# Altium schematic symbol library TimeCard_NIC.SCHLIB: 121 symbols (part 2 of 2)
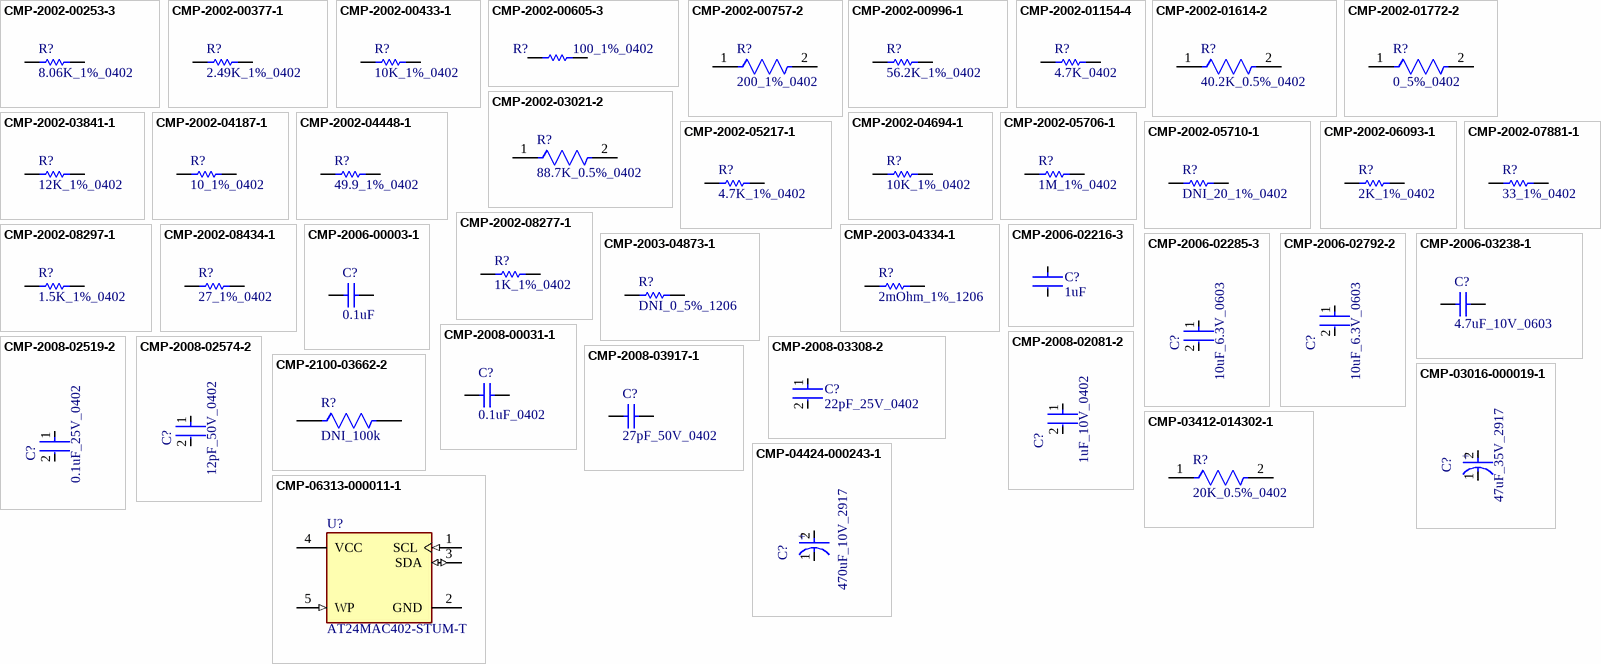
[diagram p5: symbols CMP-2002-00253-3 to CMP-06313-000011-1]

## CMP-2002-06093-1
designator R?, comment 2K_1%_0402
Manufacturer: Multicomp; Part Number: MC00625W040212K; Manufacturer Part Number: MC00625W040212K
footprint RESC1005X40X25LL10T10 (Chip Resistor, 2-Leads, Body 1.00x0.50mm, IPC High Density)
footprint RESC1005X40X25NL10T10 (Chip Resistor, 2-Leads, Body 1.00x0.50mm, IPC Medium Density)
footprint RESC1005X40X25ML10T10 (Chip Resistor, 2-Leads, Body 1.00x0.50mm, IPC Low Density)
pins: 1, 2
1 alternate drawing of the same symbol

## CMP-2002-07881-1
designator R?, comment 33_1%_0402
Part Number: RC0402FR-1333RL; Manufacturer: Yageo; Manufacturer Part Number: RC0402FR-1333RL
footprint RESC1005X40X25NL05T10 (Chip Resistor, 2-Leads, Body 1.00x0.50mm, IPC Medium Density)
footprint RESC1005X40X25LL05T10 (Chip Resistor, 2-Leads, Body 1.00x0.50mm, IPC High Density)
footprint RESC1005X40X25ML05T10 (Chip Resistor, 2-Leads, Body 1.00x0.50mm, IPC Low Density)
pins: 1, 2
1 alternate drawing of the same symbol

## CMP-2002-08277-1
designator R?, comment 1K_1%_0402
Manufacturer: Vishay Dale; Part Number: CRCW04021K00FKTD; Manufacturer Part Number: CRCW04021K00FKTD
footprint RESC1005X40X25NL05T05 (Chip Resistor, 2-Leads, Body 1.00x0.50mm, IPC Medium Density)
footprint RESC1005X40X25LL05T05 (Chip Resistor, 2-Leads, Body 1.00x0.50mm, IPC High Density)
footprint RESC1005X40X25ML05T05 (Chip Resistor, 2-Leads, Body 1.00x0.50mm, IPC Low Density)
pins: 1, 2
1 alternate drawing of the same symbol

## CMP-2002-08297-1
designator R?, comment 1.5K_1%_0402
Part Number: CRCW04021K50FKED; Manufacturer: Vishay Dale; Manufacturer: Vishay; Manufacturer Part Number: CRCW04021K50FKED
footprint RESC1005X40X25NL05T05 (Chip Resistor, 2-Leads, Body 1.00x0.50mm, IPC Medium Density)
footprint RESC1005X40X25ML05T05 (Chip Resistor, 2-Leads, Body 1.00x0.50mm, IPC Low Density)
footprint RESC1005X40X25LL05T05 (Chip Resistor, 2-Leads, Body 1.00x0.50mm, IPC High Density)
pins: 1, 2
1 alternate drawing of the same symbol

## CMP-2002-08434-1
designator R?, comment 27_1%_0402
Part Number: CRCW040227R0FKED; Manufacturer: Vishay Dale; Manufacturer: Vishay; Manufacturer Part Number: CRCW040227R0FKED
footprint RESC1005X40X25NL05T05 (Chip Resistor, 2-Leads, Body 1.00x0.50mm, IPC Medium Density)
footprint RESC1005X40X25LL05T05 (Chip Resistor, 2-Leads, Body 1.00x0.50mm, IPC High Density)
footprint RESC1005X40X25ML05T05 (Chip Resistor, 2-Leads, Body 1.00x0.50mm, IPC Low Density)
pins: 1, 2
1 alternate drawing of the same symbol

## CMP-2003-04334-1
designator R?, comment 2mOhm_1%_1206
Manufacturer: Vishay Dale; Part Number: WSL12062L000FEA18; Manufacturer Part Number: WSL12062L000FEA18
footprint RESC3216X89X64NL25T25 (Chip Resistor, 2-Leads, Body 3.20x1.60mm, IPC Medium Density)
footprint RESC3216X89X64LL25T25 (Chip Resistor, 2-Leads, Body 3.20x1.60mm, IPC High Density)
footprint RESC3216X89X64ML25T25 (Chip Resistor, 2-Leads, Body 3.20x1.60mm, IPC Low Density)
pins: 1, 2
1 alternate drawing of the same symbol

## CMP-2003-04873-1
designator R?, comment DNI_0_5%_1206  (no BOM)
Part Number: CRCW12060000Z0EAHP; Manufacturer: Vishay Dale; Manufacturer Part Number: CRCW12060000Z0EAHP
footprint RESC3116X65X50ML20T20 (Chip Resistor, 2-Leads, Body 3.10x1.60mm, IPC Low Density)
footprint RESC3116X65X50LL20T20 (Chip Resistor, 2-Leads, Body 3.10x1.60mm, IPC High Density)
footprint RESC3116X65X50NL20T20 (Chip Resistor, 2-Leads, Body 3.10x1.60mm, IPC Medium Density)
pins: 1, 2
1 alternate drawing of the same symbol

## CMP-2006-00003-1
designator C?, comment 0.1uF
C0603X104K5RACAUTO; Manufacturer: Kemet; Part Number: C0603X104K5RACAUTO; Manufacturer: KEMET; Manufacturer Part Number: C0603X104K5RACAUTO
footprint CAPC1608X87X45ML20T05 (Chip Capacitor, 2-Leads, Body 1.60x0.80mm, IPC Low Density)
footprint CAPC1608X87X45LL20T05 (Chip Capacitor, 2-Leads, Body 1.60x0.80mm, IPC High Density)
footprint CAPC1608X87X45NL20T05 (Chip Capacitor, 2-Leads, Body 1.60x0.80mm, IPC Medium Density)
pins: 1, 2
1 alternate drawing of the same symbol

## CMP-2006-02216-3
designator C?, comment 1uF
CAP CER 1UF 25V X5R 0603; Manufacturer: KEMET; Manufacturer Part Number: C0603C105K3PACTU; Dielectric Material: Ceramic; Tolerance: 10%; Contact Plating: Tin; Number of Pins: 2; Lead Free: Lead Free; Depth: 0.8mm; Length: 1.6mm; Mount: Surface Mount; Case Code (Metric): 1608; Max Operating Temperature: 85°C; Voltage: 25V; Voltage Rating (DC): 25V; REACH SVHC: No SVHC; Height: 0.8mm; Series: C0603C; Case/Package: 0603; Case Code (Imperial): 0603; Capacitance: 1uF; RoHS Compliant: Yes; Dielectric: X5R; Packaging: Tape and Reel; Construction: Flat; Thickness: 0.034inch; Voltage Rating: 25V; Radiation Hardening: No; Width: 0.031inch; Min Operating Temperature: -55°C; Termination: SMD/SMT; Package Quantity: 4000
footprint FP-C0603C105K3PACTU-MFG
footprint FP-C0603C105K3PACTU-IPC_C
footprint FP-C0603C105K3PACTU-IPC_B
footprint FP-C0603C105K3PACTU-IPC_A
pins: 1, 2

## CMP-2006-02285-3
designator C?, comment 10uF_6.3V_0603
CAP CER 10UF 6.3V X5R 0603; Manufacturer Part Number: C0603C106M9PACTU; Manufacturer: Kemet; Material: Ceramic; Temperature Coefficient: 15%; Tolerance: 20%; Category: Cap; Height: 0.9mm; Digikey Description: CAP CER 10UF 6.3V X5R 0603; Mouser Description: In a Pack of 10, KEMET 0603 (1608M) 10µF MLCC 6.3V dc ±20% SMD C0603C106M9PACTU; Voltage Rating: 6.3V; Device Class L2: Capacitors; Temperature Range Low: -55°C; Temperature Characteristic: X5R; ComponentLink2Description: Datasheet; Ipc Land Pattern Name: CAPC16080X80; ComponentLink2URL: http://www.kemet.com/Lists/ProductCatalog/Attachments/19/KEM_C1006_X5R_SMD.pdf; Capacitance: 10uF; Temperature Range High: +85°C; Device Class L3: Ceramic Capacitors; RoHS: TRUE; Automotive: No; Value: 10uF; Temperature: -55°C to +85°C; Device Class L1: Passive Components; Package: C0603C106M9PACTU; Lead Free: Yes; Octopart: https://octopart.com/c0603c106m9pactu-kemet-8375727; Manufacturer: KEMET
footprint FP-C0603C106M9PACTU-MFG
footprint FP-C0603C106M9PACTU-IPC_C
footprint FP-C0603C106M9PACTU-IPC_B
footprint FP-C0603C106M9PACTU-IPC_A
pins: 1, 2

## CMP-2006-02792-2
designator C?, comment 10uF_6.3V_0603
Chip Multilayer Ceramic Capacitors for General Purpose, 0603, 10uF, X5R, 15%, 20%, 6.3V; Manufacturer: Murata; Manufacturer Part Number: GRM188R60J106ME47D; Packaging: Tape and Reel; Voltage Rating (DC): 6.3V; Width: 0.031inch; Termination: SMD/SMT; Dielectric: X5R; Package Quantity: 4000; Voltage Rating: 6.3V; Capacitance: 10uF; Case/Package: 0603; Min Operating Temperature: -55°C; Voltage: 6.3V; Length: 1.6mm; Thickness: 0.035inch; Lead Free: Lead Free; Depth: 0.8mm; Case Code (Imperial): 0603; Max Operating Temperature: 85°C; Material: Ceramic; Height: 0.8mm; Tolerance: 20%; Mount: Surface Mount; REACH SVHC: No SVHC; Radiation Hardening: No; Case Code (Metric): 1608
footprint FP-GRM188-0_1-e0_2_0_55-IPC_A
footprint FP-GRM188-0_1-e0_2_0_55-IPC_C
footprint FP-GRM188-0_1-e0_2_0_55-MFG
footprint FP-GRM188-0_1-e0_2_0_55-IPC_B
pins: 1, 2

## CMP-2006-03238-1
designator C?, comment 4.7uF_10V_0603
Part Number: C0603C475K8PACTU; Manufacturer: Kemet; Manufacturer: KEMET; Manufacturer Part Number: C0603C475K8PACTU
footprint CAPC1608X87X35NL15T15 (Chip Capacitor, 2-Leads, Body 1.60x0.80mm, IPC Medium Density)
footprint CAPC1608X87X35LL15T15 (Chip Capacitor, 2-Leads, Body 1.60x0.80mm, IPC High Density)
footprint CAPC1608X87X35ML15T15 (Chip Capacitor, 2-Leads, Body 1.60x0.80mm, IPC Low Density)
pins: 1, 2
1 alternate drawing of the same symbol

## CMP-2008-00031-1
designator C?, comment 0.1uF_0402
Part Number: LD02YD104KAB2A; Manufacturer: AVX Interconnect / Elco; Manufacturer: Kyocera AVX; Manufacturer Part Number: LD02YD104KAB2A
footprint CAPC1005X56X25NL10T15 (Chip Capacitor, 2-Leads, Body 1.00x0.50mm, IPC Medium Density)
footprint CAPC1005X56X25LL10T15 (Chip Capacitor, 2-Leads, Body 1.00x0.50mm, IPC High Density)
footprint CAPC1005X56X25ML10T15 (Chip Capacitor, 2-Leads, Body 1.00x0.50mm, IPC Low Density)
pins: 1, 2
1 alternate drawing of the same symbol

## CMP-2008-02081-2
designator C?, comment 1uF_10V_0402
CAP CER 1UF 10V X5R 0402; Manufacturer: KEMET; Manufacturer Part Number: C0402C105K8PACTU; Dielectric Material: Ceramic; Dissipation Factor: 5%; Tolerance: 10%; Number of Pins: 2; Contact Plating: Tin; Min Operating Temperature: -55°C; Termination: SMD/SMT; Lead Free: Lead Free; Construction: Flat; Voltage Rating (DC): 10V; Mount: Surface Mount; Series: C; Thickness: 0.022inch; Width: 0.5mm; Radiation Hardening: No; Capacitance: 1uF; Dielectric: X5R; Height: 0.5mm; Voltage: 10V; Length: 1mm; Depth: 0.5mm; Max Operating Temperature: 85°C; Package Quantity: 1; Packaging: Tape and Reel; RoHS Compliant: Yes; Case Code (Imperial): 0402; Case Code (Metric): 1005; REACH SVHC: No SVHC; Voltage Rating: 10V; Case/Package: 0402
footprint FP-C0402C105K8PACTU-MFG
footprint FP-C0402C105K8PACTU-IPC_C
footprint FP-C0402C105K8PACTU-IPC_B
footprint FP-C0402C105K8PACTU-IPC_A
pins: 1, 2

## CMP-2008-02519-2
designator C?, comment 0.1uF_25V_0402
General Purpose Ceramic Capacitor, 0402, 100nF, 10%, X7R, 15%, 25V; Manufacturer: Kyocera AVX; Manufacturer Part Number: 04023C104KAT2A; Package Quantity: 1; Capacitance: 100nF; Min Operating Temperature: -55°C; Voltage: 25V; Voltage Rating: 25V; Construction: Flat; Max Operating Temperature: 125°C; Radiation Hardening: No; Depth: 0.5mm; Thickness: 0.022inch; Voltage Rating (DC): 25V; Number of Pins: 2; Lead Free: Lead Free; Series: -; REACH SVHC: No SVHC; Length: 1mm; Dielectric: X7R; RoHS Compliant: Yes; Mount: Surface Mount; Packaging: Tape and Reel; Case/Package: 0402; Case Code (Imperial): 0402; Termination: SMD/SMT; Width: 0.02inch; Case Code (Metric): 1005; Tolerance: 10%
footprint FP-0402-L_1_0_1-W_0_5_0_1-IPC_C
footprint FP-0402-L_1_0_1-W_0_5_0_1-IPC_B
footprint FP-0402-L_1_0_1-W_0_5_0_1-MFG
footprint FP-0402-L_1_0_1-W_0_5_0_1-IPC_A
pins: 1, 2

## CMP-2008-02574-2
designator C?, comment 12pF_50V_0402
General Purpose Ceramic Capacitor, 0402, 12pF, 5%, C0G, 30ppm/°C, 50V; Manufacturer: Kyocera AVX; Manufacturer Part Number: 04025A120JAT2A; Insulation Resistance: 100GR; Radiation Hardening: No; RoHS Compliant: Yes; Voltage Rating: 50V; Case Code (Imperial): 0402; Height: 0.5mm; Voltage: 50V; Voltage Rating (DC): 50V; Mount: Surface Mount; Capacitance: 12pF; Thickness: 0.022inch; Depth: 0.5mm; Max Operating Temperature: 125°C; Construction: Flat; Termination: SMD/SMT; Tolerance: 5%; Length: 1mm; Lead Free: Lead Free; Dielectric: C0G; Number of Pins: 2; Package Quantity: 1; Series: -; Temperature Coefficient: 30ppm/°C; Min Operating Temperature: -55°C; Case/Package: 0402; Packaging: Tape and Reel; Case Code (Metric): 1005; Width: 0.02inch; REACH SVHC: No SVHC
footprint FP-0402-L_1_0_1-W_0_5_0_1-IPC_B
footprint FP-0402-L_1_0_1-W_0_5_0_1-IPC_A
footprint FP-0402-L_1_0_1-W_0_5_0_1-IPC_C
footprint FP-0402-L_1_0_1-W_0_5_0_1-MFG
pins: 1, 2

## CMP-2008-03308-2
designator C?, comment 22pF_25V_0402
CAP CER 22PF 25V 5% NP0 0402; Manufacturer: Kemet; Manufacturer Part Number: C0402C220J3GACTU; Tolerance: 0.05; Temperature Characteristic: C0G; Material: Ceramic; Temperature Coefficient: 15%; Temperature Range High: +125°C; Automotive: No; Value: 22 pF; Category: Cap; Package: C0402-BB; Voltage Rating: 25 V; ComponentLink2URL: https://content.kemet.com/datasheets/KEM_C1002_X7R_SMD.pdf; Digikey Description: CAP CER 22PF 25V 5% NP0 0402; Device Class L2: Capacitors; Height: 0.55mm; Octopart: https://octopart.com/c0402c220j3gactu-kemet-8375716; Ipc Land Pattern Name: CAPC10050X50; Capacitance: 22 pF; Temperature: -55°C to +125°C; ComponentLink2Description: Datasheet; Temperature Range Low: -55°C; Device Class L1: Passive Components; RoHS: TRUE; Lead Free: Yes; Mouser Description: Multilayer Ceramic Capacitors MLCC - SMD/SMT 25volts 22pF C0G 5%; Device Class L3: Ceramic Capacitors; Manufacturer: KEMET
footprint FP-C0402-BB-MFG
footprint FP-C0402-BB-IPC_C
footprint FP-C0402-BB-IPC_B
footprint FP-C0402-BB-IPC_A
pins: 1, 2

## CMP-2008-03917-1
designator C?, comment 27pF_50V_0402
Part Number: GRM1555C1H270JA01D; Manufacturer: Murata; Manufacturer Part Number: GRM1555C1H270JA01D
footprint CAPC1005X55X25LL05T10 (Chip Capacitor, 2-Leads, Body 1.00x0.50mm, IPC High Density)
footprint CAPC1005X55X25ML05T10 (Chip Capacitor, 2-Leads, Body 1.00x0.50mm, IPC Low Density)
footprint CAPC1005X55X25NL05T10 (Chip Capacitor, 2-Leads, Body 1.00x0.50mm, IPC Medium Density)
pins: 1, 2
1 alternate drawing of the same symbol

## CMP-2100-03662-2
designator R?, comment DNI_100k  (no BOM)
RES SMD 100K OHM 1% 1/10W 0603; Manufacturer: Yageo; Manufacturer Part Number: RC0603FR-07100KL; Voltage Rating (DC): 50V; Resistance: 100kR; Max Power Dissipation: 100mW; Temperature Coefficient: 100ppm/°C; Working Voltage: 75V; Length: 1.6mm; Lead Free: Lead Free; Number of Terminations: 2; Packaging: Tape and Reel; Voltage Rating: 50V; Termination: SMD/SMT; Width: 0.8mm; Resistor Type: Thick Film; Resistance Tolerance: 1%; Features: Moisture Resistant; Height: 0.45mm; Construction: Rectangular; Case/Package: 0603; Military Standard: Not; Case Code (Imperial): 0603; Series: RC; Technology: THICK FILM; Depth: 0.8mm; RoHS Compliant: Yes; REACH SVHC: No SVHC; Min Operating Temperature: -55°C; Case Code (Metric): 1608; Max Operating Temperature: 155°C; Power Rating: 100mW; Number of Pins: 2; Tolerance: 1%
footprint FP-RC0603-0_55-MFG
footprint FP-RC0603-0_55-IPC_C
footprint FP-RC0603-0_55-IPC_B
footprint FP-RC0603-0_55-IPC_A
pins: 1, 2

## CMP-03016-000019-1
designator C?, comment 47uF_35V_2917
CAP TANT POLY 47UF 35V 2917; Manufacturer: KEMET; Manufacturer Part Number: T521X476M035ATE030; Tolerance: 20%; Dissipation Factor: 10%; Life (Hours): 2000Hour; Polarity: Polar; ESR (Equivalent Series Resistance): 30mR; Mount: Surface Mount; Voltage Rating (DC): 35V; Height - Seated (Max): 0.169inch; Package Quantity: 1; Height: 4mm; Max Operating Temperature: 125°C; Width: 4.3mm; Packaging: Tape and Reel; Case/Package: 2917; Series: KO-CAP T521; Min Operating Temperature: -55°C; Depth: 4.3mm; Case Code (Metric): 7343; Number of Pins: 2; RoHS Compliant: Yes; Case Code (Imperial): 2917; Capacitance: 47uF; REACH SVHC: No SVHC; Features: General Purpose; Termination: SMD/SMT; Length: 7.3mm; Voltage Rating: 35V; Construction: Flat
footprint FP-T521X476M035ATE030-MFG
pins: 1 C, 2 A
text: +

## CMP-03412-014302-1
designator R?, comment 20K_0.5%_0402
RES SMD 20K OHM 0.5% 1/16W 0402; Manufacturer: Yageo; Manufacturer Part Number: RT0402DRE0720KL; Resistance: 20KΩ; Voltage Rating: 50V; Value: 20KΩ; Tolerance: 0.005; Temperature Coefficient: 50 ppm/°C; Power Rating: 0.063W; RoHS: TRUE; Ipc Land Pattern Name: RESC10050X30; Category: Res; Footprint Url: http://www.yageo.com/exep/pages/download/literatures/PYu-R_Mount_10.pdf; Temperature: -55°C to +155°C; Device Class L1: Passive Components; Device Class L3: Chip SMD Resistors; Temperature Range High: +155°C; Digikey Description: RES SMD 20K OHM 0.5% 1/16W 0402; Device Class L2: Resistors; Octopart: https://octopart.com/rt0402dre0720kl-yageo-1422019; ComponentLink2Description: Datasheet; Composition: Thin Film; Automotive: No; Series: RT; Temperature Range Low: -55°C; Package: RT0402; ComponentLink2URL: http://www.yageo.com/documents/recent/PYu-RT_1-to-0.01_RoHS_L_9.pdf; Lead Free: Yes; Height: 0.35mm
footprint FP-RT0402-MFG
footprint FP-RT0402-IPC_C
footprint FP-RT0402-IPC_B
footprint FP-RT0402-IPC_A
pins: 1, 2

## CMP-04424-000243-1
designator C?, comment 470uF_10V_2917
470uF 10V  ±10% 500mΩ 2917  SMD Tantalum Capacitor; Manufacturer: Kyocera AVX; Manufacturer Part Number: TAJE477K010RNJ; Leakage Current: 47uA; ESR (Equivalent Series Resistance): 500mR; Polarity: Polar; Construction: Flat; Width: 4.3mm; Mount: Surface Mount; Tolerance: 10%; Max Operating Temperature: 125°C; Min Operating Temperature: -55°C; Length: 7.3mm; Voltage: 10V; Dissipation Factor: 10%; REACH SVHC: No SVHC; Lead Free: Lead Free; Case/Package: 2917; Voltage Rating: 10V; Capacitance: 470uF; Series: TAJ; Height: 4.1mm; RoHS Compliant: Yes; Packaging: Tape and Reel; Voltage Rating (DC): 10V; Radiation Hardening: No; Dielectric Material: Tantalum; Number of Pins: 2; Depth: 4.3mm; Case Code (Metric): 7343; Case Code (Imperial): 2917; Termination: SMD/SMT; Lead Pitch: 4.4mm; Features: General Purpose; Height - Seated (Max): 0.169inch; Package Quantity: 1
footprint FP-TAJE-MFG
pins: 1 C, 2 A
text: +

## CMP-06313-000011-1
designator U?, comment AT24MAC402-STUM-T
IC EEPROM 2K I2C 1MHZ SOT23-5; Manufacturer: Microchip; Memory Size: 2Kbits; Min Supply Voltage: 1.7V; Max Supply Voltage: 5.5V; Frequency: 1000kHz; Standoff Height: 0mm; Nominal Supply Current: 0.4-2mA; Access Time: 0.55us; Interface: I2C,2-Wire; Temperature Range Low: -40°C; Height: 1mm; ComponentLink2URL: http://ww1.microchip.com/downloads/en/DeviceDoc/Atmel-8807-SEEPROM-AT24MAC402-602-Datasheet.pdf; Ipc Land Pattern Name: SOT95P280X100-5; Category: IC; Memory Type: EEPROM; Digikey Description: IC EEPROM 2K I2C 1MHZ SOT23-5; Manufacturer Part Number: AT24MAC402-STUM-T; Device Class L1: Integrated Circuits (ICs); Temperature Range High: +85°C; ComponentLink2Description: Datasheet; RoHS: TRUE; Mouser Description: EEPROM Serial-I2C 2K-bit 256 x 8 1.8V/2.5V/3.3V/5V 5-Pin SOT-23 T/R; Octopart: https://octopart.com/at24mac402-stum-t-microchip-77758112; Temperature: -40°C to +85°C; Package: 5TS1; Device Class L3: EEPROM; Automotive: No; Device Class L2: Memory; Lead Free: Yes
footprint FP-5TS1-IPC_C
footprint FP-5TS1-IPC_B
footprint FP-5TS1-IPC_A
pins: 1 SCL (in), 2 GND (power), 3 SDA (io), 4 VCC (power), 5 WP (in)

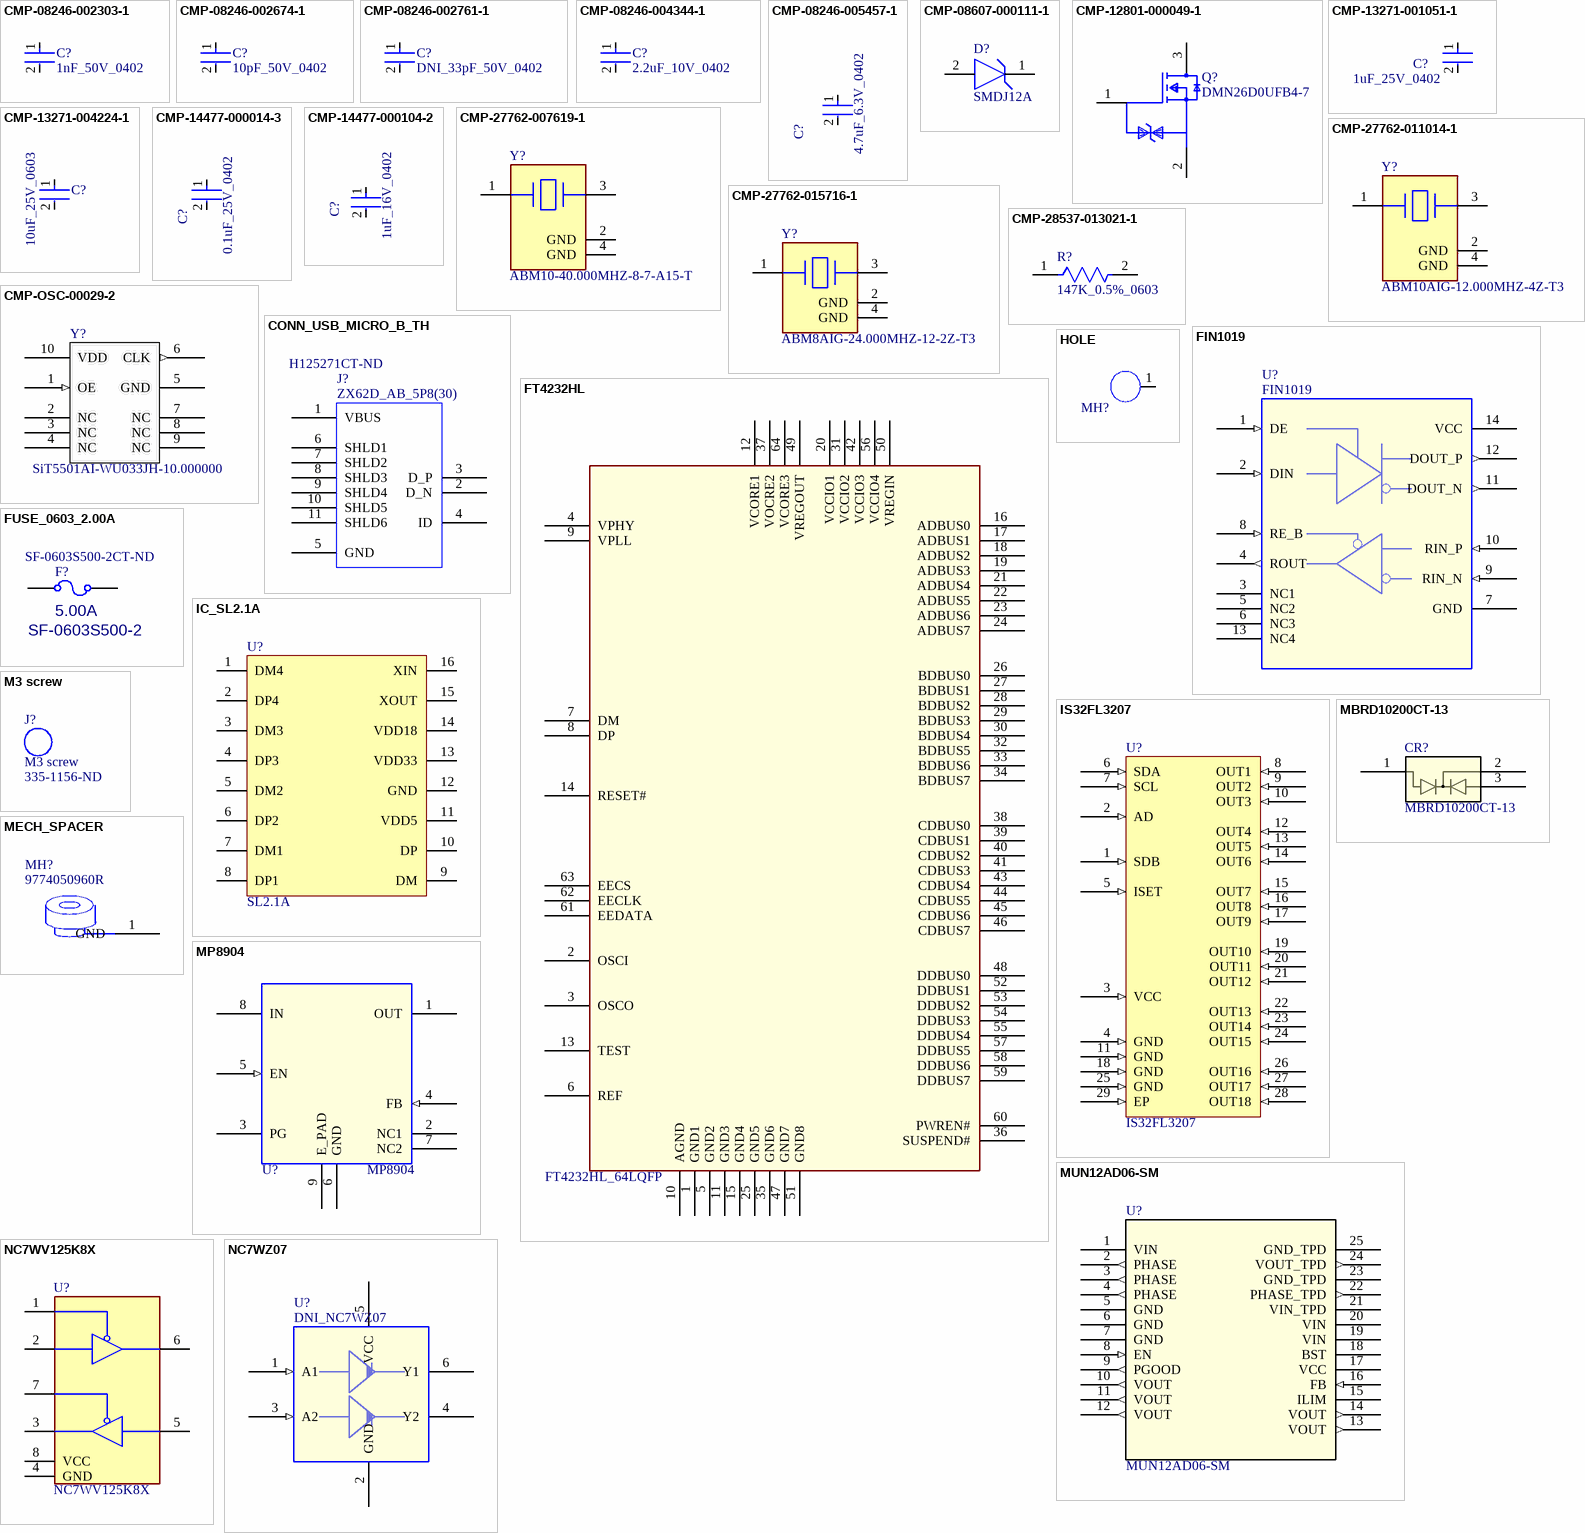
[diagram p2: symbols CMP-08246-002303-1 to NC7WZ07]

## CMP-08246-002303-1
designator C?, comment 1nF_50V_0402
Cap Ceramic 1nF 50V X7R 10% Pad SMD 0402 +125°C Automotive T/R; Manufacturer: TDK; Manufacturer Part Number: CGA2B2X7R1H102K050BA; Width: 0.02inch; Thickness: 0.022inch; Min Operating Temperature: -55°C; Mount: Surface Mount; Voltage Rating (DC): 50V; Voltage Rating: 50V; Termination: SMD/SMT; Capacitance: 1nF; Case/Package: 0402; Depth: 0.5mm; Length: 1mm; Ratings: AEC-Q200; Height: 0.5mm; Dielectric: X7R; Radiation Hardening: No; Lead Free: Lead Free; Composition: Ceramic; Max Operating Temperature: 125°C; Case Code (Imperial): 0402; Tolerance: 10%; Case Code (Metric): 1005; REACH SVHC: No SVHC; Package Quantity: 1; Packaging: Tape and Reel; Weight: 2.3E-05oz
footprint FP-CGA2B-MFG
footprint FP-CGA2B-IPC_A
footprint FP-CGA2B-IPC_B
footprint FP-CGA2B-IPC_C
pins: 1, 2

## CMP-08246-002674-1
designator C?, comment 10pF_50V_0402
CAP CER 10PF 50V C0G 0402; Manufacturer: TDK; Manufacturer Part Number: C1005C0G1H100D050BA; Temperature Coefficient: 30ppm/°C; Dielectric Material: Ceramic; Termination: SMD/SMT; Width: 0.02inch; Case Code (Metric): 1005; Thickness: 0.022inch; Height: 0.5mm; REACH SVHC: No SVHC; Case Code (Imperial): 0402; Voltage: 50V; Capacitance: 10pF; Max Operating Temperature: 125°C; Length: 1mm; Construction: Flat; Packaging: Tape and Reel; Lead Free: Lead Free; Series: C; Depth: 0.5mm; Dielectric: C0G; Package Quantity: 1; Mount: Surface Mount; Voltage Rating (DC): 50V; Voltage Rating: 50V; Case/Package: 0402; RoHS Compliant: Yes; Min Operating Temperature: -55°C; Number of Pins: 2; Radiation Hardening: No; Weight: 2.3E-05oz
footprint FP-C1005-050-0_05-IPC_C
footprint FP-C1005-050-0_05-IPC_A
footprint FP-C1005-050-0_05-MFG
footprint FP-C1005-050-0_05-IPC_B
pins: 1, 2

## CMP-08246-002761-1
designator C?, comment DNI_33pF_50V_0402  (no BOM)
Multilayer Ceramic Capacitors 33pF ±1% 50V C0G SMD 0402; Manufacturer: TDK; Manufacturer Part Number: C1005C0G1H330F050BA; Weight: 2.3E-05oz; Case/Package: 0402; Mount: Surface Mount; REACH SVHC: No SVHC; Voltage Rating (DC): 50V; Voltage Rating: 50V; Max Operating Temperature: 125°C; Packaging: Tape and Reel; Length: 0.039inch; Dielectric: C0G; Case Code (Imperial): 0402; Height: 0.5mm; Termination: SMD/SMT; Min Operating Temperature: -55°C; Thickness: 0.022inch; Lead Free: Lead Free; Depth: 0.5mm; Dielectric Material: Ceramic; Package Quantity: 1; Case Code (Metric): 1005; Capacitance: 33pF; RoHS Compliant: Yes; Series: C; Width: 0.02inch; Tolerance: 1%
footprint FP-C1005-050-0_05-IPC_A
footprint FP-C1005-050-0_05-IPC_B
footprint FP-C1005-050-0_05-IPC_C
footprint FP-C1005-050-0_05-MFG
pins: 1, 2

## CMP-08246-004344-1
designator C?, comment 2.2uF_10V_0402
CAP CER 2.2UF 10V X7S 0402; Manufacturer: TDK; Manufacturer Part Number: C1005X7S1A225K050BC; Dielectric Material: Ceramic; Tolerance: 10%; Mount: Surface Mount; Height: 0.5mm; Package Quantity: 1; Depth: 0.5mm; RoHS Compliant: Yes; Length: 1mm; Thickness: 0.022inch; Packaging: Tape and Reel; Capacitance: 2.2uF; Case Code (Imperial): 0402; Resistor Type: Ceramic; Dielectric: X7S; Case/Package: 0402; Min Operating Temperature: -55°C; Voltage Rating: 10V; Series: C; Weight: 2.3E-05oz; Width: 0.02inch; Voltage Rating (DC): 10V; Case Code (Metric): 1005; Max Operating Temperature: 125°C; Termination: SMD/SMT; Lead Free: Lead Free
footprint FP-C1005-050-0_15-0_1-MFG
footprint FP-C1005-050-0_15-0_1-IPC_C
footprint FP-C1005-050-0_15-0_1-IPC_B
footprint FP-C1005-050-0_15-0_1-IPC_A
pins: 1, 2

## CMP-08246-005457-1
designator C?, comment 4.7uF_6.3V_0402
CAP CER 4.7UF 6.3V X5R 0402; Manufacturer: TDK; Manufacturer Part Number: C1005X5R0J475M050BC; Dissipation Factor: 10%; Tolerance: 20%; Dielectric Material: Ceramic; Min Operating Temperature: -55°C; Construction: Flat; Voltage Rating (DC): 6.3V; Case Code (Metric): 1005; Voltage: 6.3V; Thickness: 0.026inch; Lead Free: Lead Free; Weight: 2.3E-05oz; Height: 0.5mm; Series: C; Case/Package: 0402; Capacitance: 4.7uF; Dielectric: X5R; Case Code (Imperial): 0402; Width: 0.02inch; Radiation Hardening: No; Packaging: Tape and Reel; Resistor Type: Ceramic; Termination: SMD/SMT; Max Operating Temperature: 85°C; REACH SVHC: No SVHC; Mount: Surface Mount; Package Quantity: 1; Length: 1mm; Voltage Rating: 6.3V; Depth: 0.5mm
footprint FP-C1005-050-0_15-IPC_C
footprint FP-C1005-050-0_15-IPC_B
footprint FP-C1005-050-0_15-MFG
footprint FP-C1005-050-0_15-IPC_A
pins: 1, 2

## CMP-08607-000111-1
designator D?, comment SMDJ12A
TVS DIODE 12V 19.9V DO214AB; Manufacturer: Littelfuse; Number of Channels: 1; Power Line Protection: No; Reverse Breakdown Voltage: 13.3V; Max Power Dissipation: 6.5W; Peak Pulse Current: 150.8A; Leakage Current: 2uA; Diode Type: ZENER; Power Dissipation: 3kW; Test Current: 1mA; Direction: Unidirectional; Max Breakdown Voltage: 14.7V; Lead Free: Lead Free; Packaging: Tape and Reel; Series: SMDJ; Number of Pins: 2; Resistor Type: Zener; Termination: SMD/SMT; RoHS Compliant: Yes; Number of Elements: 1; REACH SVHC: No SVHC; Min Breakdown Voltage: 13.3V; Mount: Surface Mount; Operating Supply Voltage: 12V; Polarity: Unidirectional; Breakdown Voltage: 13.3V; Max Surge Current: 150.8A; Clamping Voltage-Max: 19.9V; Clamping Voltage: 19.9V; Reverse Standoff Voltage: 12V; Max Operating Temperature: 150°C; Case/Package: DO-214AB; Package Quantity: 3000; Peak Pulse Power: 3kW; Min Operating Temperature: -55°C; Number of Unidirectional Channels: 1; Manufacturer Part Number: SMDJ12A
footprint FP-DO-214AB_SMC_J-Bend-MFG
pins: 1 C, 2 A

## CMP-12801-000049-1
designator Q?, comment DMN26D0UFB4-7
MOSFET N-CH 20V 230MA DFN; Manufacturer: Diodes Inc.; Manufacturer: Diodes; Threshold Vgs Max: 0.9V; Input Capacitace At Vds: 14.1pF @ 15V; Depletion Mode: False; Pulse Drain Current: 805mA; Threshold Vgs Min: 0.6V; Gate To Source Voltage: 10V; Max Junction Temp: +150°C; Turn On Delay Time: 3.8ns; Automotive Grade: Grade 0; Turn Off Delay Time: 13.4ns; Power Dissipation: 350mW; Standoff Height: 0mm; Transconductance: 0.242S; Number Of N Channels: 1; Drain To Source Resistance: 1.8Ω; Continuous Drain Current: 240mA; Max Forward Diode Voltage: 1.4V; Rthja Max: 357°C/W; Device Class L3: MOSFETs; Temperature: -55°C to +150°C; Footprint Url: https://www.diodes.com/assets/Package-Files/X2-DFN1006-3.pdf; Mouser Description: MOSFET ENHANCE MODE MOSFET 20V N-Chan; Device Class L1: Discrete Semiconductors; Height: 0.4mm; RoHS: TRUE; Digikey Description: MOSFET N-CH 20V 230MA DFN; Temperature Range Low: -55°C; Category: Trans; Temperature Range High: +150°C; Automotive: Yes; Drain To Source Voltage: 20V; ComponentLink2URL: https://www.diodes.com/assets/Datasheets/ds31775.pdf; Drain To Source Breakdown Voltage: 20V; ComponentLink2Description: Datasheet; Device Class L2: Transistors; Octopart: https://octopart.com/dmn26d0ufb4-7-diodes+inc.-17947794; Package: X2-DFN1006-3; Lead Free: Yes; Manufacturer Part Number: DMN26D0UFB4-7; Number Of Channels: 1
footprint FP-X2-DFN1006-3-MFG
pins: 1 G, 2 S, 3 D

## CMP-13271-001051-1
designator C?, comment 1uF_25V_0402
Cap Ceramic 1uF 25V X5R ±10% SMD 0402 +85°C Paper T/R; Manufacturer: Samsung; Manufacturer Part Number: CL05A105KA5NQNC; Radiation Hardening: No; Lead Free: Lead Free; Capacitance: 1uF; Package Quantity: 10000; Max Operating Temperature: 85°C; Voltage Rating: 25V; Case/Package: 0402; Min Operating Temperature: -55°C; Packaging: Tape and Reel; Tolerance: 10%; Height: 0.5mm; Thickness: 0.022inch; Case Code (Metric): 1005; Width: 0.02inch; Case Code (Imperial): 0402; Dielectric: X5R; Length: 1mm; Mount: Surface Mount; Material: Ceramic; Depth: 0.5mm
footprint FP-CL542-IPC_C
footprint FP-CL542-IPC_B
footprint FP-CL542-IPC_A
pins: 1, 2

## CMP-13271-004224-1
designator C?, comment 10uF_25V_0603
Cap Ceramic 10uF 25V X5R ±20% Pad SMD 0603 +85°C T/R; Manufacturer: Samsung; Manufacturer Part Number: CL10A106MA8NRNC; Width: 0.031inch; Voltage Rating: 25V; Length: 0.063inch; Case Code (Metric): 1608; Dielectric: X5R; Termination: Wraparound; Capacitance: 10uF; Lead Free: Lead Free; Mount: Surface Mount; Package Quantity: 1; Case Code (Imperial): 0603; Thickness: 0.035inch; Packaging: Tape and Reel; Contact Plating: Tin; Min Operating Temperature: -55°C; Tolerance: 20%; Max Operating Temperature: 85°C; Case/Package: 0603
footprint FP-CL10-IPC_C
footprint FP-CL10-IPC_A
footprint FP-CL10-IPC_B
pins: 1, 2

## CMP-14477-000014-3
designator C?, comment 0.1uF_25V_0402
None; Manufacturer: Taiyo Yuden; Manufacturer Part Number: TMK105BJ104KV-F; Voltage Rating (DC): 25V; Tolerance: 10%; Capacitance: 100nF; Dielectric: X5R; Max Operating Temperature: 85°C; Resistor Type: Ceramic; Packaging: Tape and Reel; Lead Free: Lead Free; Case Code (Imperial): 0402; Thickness: 0.022inch; Series: M; Construction: Flat; Number of Pins: 2; Width: 0.5mm; Halogen Free: Halogen Free; Case/Package: 0402; Voltage: 25V; Height: 0.5mm; Mount: Surface Mount; Min Operating Temperature: -55°C; Case Code (Metric): 1005; Length: 1mm; Depth: 0.5mm; Voltage Rating: 25V; Package Quantity: 1; Weight: 2.3E-05oz; RoHS Compliant: Yes; Termination: SMD/SMT; REACH SVHC: No SVHC
footprint FP-0402-L_1_0_0_05-W_0_5-IPC_B
footprint FP-0402-L_1_0_0_05-W_0_5-IPC_A
footprint FP-0402-L_1_0_0_05-W_0_5-IPC_C
footprint FP-0402-L_1_0_0_05-W_0_5-MFG
pins: 1, 2

## CMP-14477-000104-2
designator C?, comment 1uF_16V_0402
None; Manufacturer: Taiyo Yuden; Manufacturer Part Number: EMK105BJ105KV-F; Tolerance: 10%; Voltage Rating: 16V; Dielectric: X5R; Capacitance: 1uF; Packaging: Tape and Reel; Depth: 0.5mm; Mount: Surface Mount; Thickness: 0.022inch; Package Quantity: 1; Min Operating Temperature: -55°C; Series: M; Voltage Rating (DC): 16V; Termination: SMD/SMT; Case/Package: 0402; Number of Pins: 2; Case Code (Imperial): 0402; Length: 1mm; Halogen Free: Halogen Free; Case Code (Metric): 1005; Width: 0.02inch; RoHS Compliant: Yes; Radiation Hardening: No; Max Operating Temperature: 85°C; Height: 0.5mm; Construction: Flat
footprint FP-0402-L_1_0_0_05-W_0_5-IPC_A
simulation model EMK105BJ105_V-F
footprint FP-0402-L_1_0_0_05-W_0_5-IPC_B
footprint FP-0402-L_1_0_0_05-W_0_5-IPC_C
footprint FP-0402-L_1_0_0_05-W_0_5-MFG
pins: 1, 2

## CMP-27762-007619-1
designator Y?, comment ABM10-40.000MHZ-8-7-A15-T
Crystal 40MHz ±15ppm 8pF SMD-4 2.5mm x 2mm; Manufacturer: Abracon; Series Resistance: 70R; Frequency Tolerance: 15ppm; Width: 2mm; Depth: 2mm; Max Operating Temperature: 60°C; Termination: SMD/SMT; Frequency: 40MHz; Mount: Surface Mount; Height: 0.02inch; Lead Free: Lead Free; Length: 2.5mm; ESR (Equivalent Series Resistance): 70R; Case/Package: SMD/SMT; Number of Pins: 4; Load Capacitance: 8pF; Frequency Stability: 15ppm; RoHS Compliant: Yes; Min Operating Temperature: -10°C; Series: ABM10; Tolerance: 15ppm; Package Quantity: 1000; Packaging: Tape and Reel; Manufacturer Part Number: ABM10-40.000MHZ-8-7-A15-T
footprint FP-ABM10-MFG
pins: 1, 2 GND (power), 3, 4 GND (power)

## CMP-27762-011014-1
designator Y?, comment ABM10AIG-12.000MHZ-4Z-T3
Crystal 12MHz ±30ppm 10pF SMD-4 2.5mm x 2mm Automotive; Manufacturer: Abracon; Frequency Stability: 50ppm; ESR (Equivalent Series Resistance): 150R; Max Operating Temperature: 125°C; Frequency Tolerance: 30ppm; Frequency: 12MHz; RoHS Compliant: Yes; Mount: Surface Mount; Packaging: Tape and Reel; Case/Package: SMD/SMT; Load Capacitance: 10pF; Min Operating Temperature: -40°C; Length: 0.098inch; Height: 0.024inch; Width: 0.079inch; Ratings: AEC-Q200; Manufacturer Part Number: ABM10AIG-12.000MHZ-4Z-T3
footprint FP-ABM10AIG-MFG
pins: 1 1 Crystal, 2 GND (power), 3 2 Crystal, 4 GND (power)

## CMP-27762-015716-1
designator Y?, comment ABM8AIG-24.000MHZ-12-2Z-T3
Crystal 24MHz ±20ppm (Tol) ±50ppm (Stability) 12pF FUND 50Ω Automotive 4-Pin Ultra Mini-CSMD T/R; Manufacturer: Abracon; ESR (Equivalent Series Resistance): 50R; Series: ABM8AIG; RoHS Compliant: Yes; Load Capacitance: 12pF; Height: 0.031inch; Min Operating Temperature: -40°C; Mount: Surface Mount; Packaging: Cut Tape; Ratings: AEC-Q200; Case/Package: SMD/SMT; Frequency Stability: 50ppm; Max Operating Temperature: 125°C; Length: 0.126inch; Frequency: 24MHz; Frequency Tolerance: 20ppm; Width: 0.098inch; Manufacturer Part Number: ABM8AIG-24.000MHZ-12-2Z-T3
footprint FP-ABM8AIG-MFG
pins: 1, 2 GND (power), 3, 4 GND (power)

## CMP-28537-013021-1
designator R?, comment 147K_0.5%_0603
147kΩ ±0.5% 0.0625W 1/16W Chip Resistor 0603 (1608 Metric) Thin Film; Manufacturer: Susumu; Manufacturer Part Number: RR0816P-1473-D-17D; Voltage Rating (DC): 75V; Resistance: 147kR; Power Rating: 62.5mW; Temperature Coefficient: 25ppm/°C; Max Power Dissipation: 63mW; Width: 0.031inch; Termination: SMD/SMT; RoHS Compliant: Yes; Length: 0.063inch; Tolerance: 0.5%; Case Code (Imperial): 0603; Packaging: Tape and Reel; Lead Free: Lead Free; Case/Package: 0603; Weight: 7.1E-05oz; Series: RR; Max Operating Temperature: 125°C; Number of Terminations: 2; Package Quantity: 1; Case Code (Metric): 1608; Resistor Type: Thin Film; Voltage Rating: 75V; Height: 0.02inch; Min Operating Temperature: -55°C
footprint FP-RR0816-IPC_C
footprint FP-RR0816-IPC_A
footprint FP-RR0816-MFG
footprint FP-RR0816-IPC_B
pins: 1, 2

## CMP-OSC-00029-2
designator Y?, comment Manufacturer Part Number: SiT5501AI-WU033JH-10.000000  (hidden comment: SiTime_SiT5501AC-WU-33E0-10T)
OSC, MEMS, STRATUM 3E, 10.000MHZ, 10PPB STAB, LVCMOS, 3.3V, O/P EN, 7.0X5.0X2.2MM, CQFN-10; Manufacturer: SiTime; Frequency: 10 MHz; Voltage - Supply: 3.3 V; Type: OCXO; Category: Oscillators; Max Operating Temperature: 70°C; Min Operating Temperature: -20°C; Height: 2.20mm (max); Case/Package: 10 Lead QFN; Output: LVCMOS; Mounting Type: Surface Mount; Frequency Stability: ±10 ppb; RoHS: Yes
footprint SITIME_SPL-086-CQFN-010-C07050_REV_DRAFT (Package information (Page 9): https://www.sitime.com/support/resource-library/datasheets/sit5501-datasheet)
pins: 1 OE (in), 2 NC, 3 NC, 4 NC, 5 GND (power), 6 CLK (out), 7 NC, 8 NC, 9 NC, 10 VDD (power)

## CONN_USB_MICRO_B_TH
designator J?, comment ZX62D_AB_5P8(30)  Supplier Part Number 1: H125271CT-ND
Conn Rcpt Micro USB 2.0 Type AB RA 0.65mm P Gray SMT/TH; PARTS: 1; Manufacturer PN: ZX62D-AB-5P8(30); Agile Part Number: CON-00008-01; LEVEL: STD; PKG_TYPE: CONN_USB_MICRO_B_TH; MANF_P/N: ZX62-AB-5PA-11; MANF: HIROSE; HETERO: CONN_USB_MICRO_B_TH,(CONN_USB_MICRO_B_TH_ALT); OriginalSymbolOrigin: (20,125); PCB Footprint: CON_HR_ZX62D_AB_5P8; OWNER: 13503; Barcode: 400014; Manufacturer: HIROSE; PRICE: 0.43; ROHS: Yes; Pins: 5PIN; PartType: RECEPTACLE; Part Type: RECEPTACLE; CIP Link: http://xsjbrdwin1/CIP-E/Component/Index/All?pn=400014; Supplier 1: Digi-Key
footprint CON_HR_ZX62D_AB_5P8
pins: 1 VBUS (power), 2 D_N, 3 D_P, 4 ID, 5 GND (power), 6 SHLD1, 7 SHLD2, 8 SHLD3, 9 SHLD4, 10 SHLD5, 11 SHLD6
1 alternate drawing of the same symbol

## FIN1019
designator U?
IC Lvl Trans LVTTL-LVDS Diff 400Mbps 3.3V 2.5nSec TSSOP-14; Agile Part Number: ICS-00279-01; Manufacturer: FAIRCHILD; Manufacturer PN: FIN1019MTCX; EDMVersionID: 489931726; Barcode: 500414; PCB Footprint: TSSOP_14; Part Type: LVDS DRIVER/RECEIVER; CIP Link: http://xsjbrdwin1/CIP-E/Component/Index/All?pn=500414
footprint TSSOP_14
pins: 1 DE (in), 2 DIN (in), 3 NC1, 4 ROUT (out), 5 NC2, 6 NC3, 7 GND (power), 8 RE_B (in), 9 RIN_N (in), 10 RIN_P (in), 11 DOUT_N (out), 12 DOUT_P (out), 13 NC4, 14 VCC (power)

## FT4232HL
designator U?, comment FT4232HL_64LQFP
footprint LQFP_64
pins: 1 GND1, 2 OSCI, 3 OSCO, 4 VPHY, 5 GND2, 6 REF, 7 DM, 8 DP, 9 VPLL, 10 AGND, 11 GND3, 12 VCORE1, 13 TEST, 14 RESET#, 15 GND4, 16 ADBUS0, 17 ADBUS1, 18 ADBUS2, 19 ADBUS3, 20 VCCIO1, 21 ADBUS4, 22 ADBUS5, 23 ADBUS6, 24 ADBUS7, 25 GND5, 26 BDBUS0, 27 BDBUS1, 28 BDBUS2, 29 BDBUS3, 30 BDBUS4, 31 VCCIO2, 32 BDBUS5, 33 BDBUS6, 34 BDBUS7, 35 GND6, 36 SUSPEND#, 37 VOCRE2, 38 CDBUS0, 39 CDBUS1, 40 CDBUS2, 41 CDBUS3, 42 VCCIO3, 43 CDBUS4, 44 CDBUS5, 45 CDBUS6, 46 CDBUS7, 47 GND7, 48 DDBUS0, 49 VREGOUT, 50 VREGIN, 51 GND8, 52 DDBUS1, 53 DDBUS2, 54 DDBUS3, 55 DDBUS4, 56 VCCIO4, 57 DDBUS5, 58 DDBUS6, 59 DDBUS7, 60 PWREN#, 61 EEDATA, 62 EECLK, 63 EECS, 64 VCORE3

## FUSE_0603_2.00A
designator F?, comment value 5.00A  MFG PART NUM: SF-0603S500-2  Supplier Part Number 1: SF-0603S500-2CT-ND  (hidden comment: FUSE_0603_5.00A)
FUSE SLOW 5.00A 32V M 0603; VALENTIUM PART NUM: <VALENTIUM>; MFG NAME: BOURNS; MAXTEMP: 105C; MINTEMP: -40C; OTHER: UL E141069; P1: SLOW BLO; DESC: FUSE SLOW 1.25A 32V M 0603; MODIFY DATE: 9/4/2013; CATEGORY: FUSE; DATE: 20 OCT 15; P2: 32V; P3: M; SIZE: 0603; SHEETPART: *; Supplier 1: Digi-Key
footprint FUSM1608X60N (Chip Fuse, 0603, 2-Leads, Body 1.60x0.81mm, IPC Medium Density)
pins: 1, 2

## HOLE
designator MH?, comment MH_NP_M3_SO_600  (value not drawn)
MOUNTING HOLE, NON-PLATED 3.4MM HOLE; EDMVersionID: 490415297; Barcode: 96000044; ASSEMBLY_OPTIONS: DNP; PCB Footprint: MH_NP_M3_SO_600; CIP Link: http://xsjbrdwin1/CIP-E/Component/Index/All?pn=96000044; Part Type: HOLE
footprint MH_NP_M3_SO_600
pins: 1

## IC_SL2.1A
designator U?, comment SL2.1A
USB 2.0 HIGH SPEED 4-PORT HUB CONTROLLER; MF: CoreChips ShenZhen CO.,Ltd; Check_prices: https://www.snapeda.com/parts/SL2.1A/CoreChips%20ShenZhen%20CO.,Ltd/view-part/4219225/?ref=eda; Price: None; Availability: No availability data; Value: *; SnapEDA_Link: https://www.snapeda.com/parts/SL2.1A/CoreChips%20ShenZhen%20CO.,Ltd/view-part/4219225/?ref=snap; MP: SL2.1A; Package: Package; Supplier 1: LCSC; Supplier Part Number 1: C192893
footprint IC_SL2.1A
pins: 1 DM4, 2 DP4, 3 DM3, 4 DP3, 5 DM2, 6 DP2, 7 DM1, 8 DP1, 9 DM, 10 DP, 11 VDD5, 12 GND, 13 VDD33, 14 VDD18, 15 XOUT, 16 XIN

## IS32FL3207
designator U?
footprint IS32FL3207
pins: 1 SDB (in), 2 AD (in), 3 VCC (in), 4 GND (in), 5 ISET (in), 6 SDA (in), 7 SCL (in), 8 OUT1 (in), 9 OUT2 (in), 10 OUT3 (in), 11 GND (in), 12 OUT4 (in), 13 OUT5 (in), 14 OUT6 (in), 15 OUT7 (in), 16 OUT8 (in), 17 OUT9 (in), 18 GND (in), 19 OUT10 (in), 20 OUT11 (in), 21 OUT12 (in), 22 OUT13 (in), 23 OUT14 (in), 24 OUT15 (in), 25 GND (in), 26 OUT16 (in), 27 OUT17 (in), 28 OUT18 (in), 29 EP (in)

## M3 screw
designator J?  Supplier Part Number 1: 335-1156-ND
Supplier 1: Digi-Key

## MBRD10200CT-13
designator CR?
No Description Available; Mfr_Name: Diodes Inc; Type: Diodes - Rectifiers, Arrays; RefDes: RefDes
footprint TO252(DPAK)_DIO
pins: 1, 2, 3

## MECH_SPACER
designator MH?, comment 9774050960R
Standoff Female 3.3mm ID 5mm L 7.4mm OD SMT/TH Steel; Manufacturer: Würth Elektronik; Agile Part Number: MEC-00173-01; Barcode: 90000024; PCB Footprint: CON_WE_WA-SMST_6MM; Datasheet: https://media.digikey.com/pdf/Data%20Sheets/Wurth%20Electronics%20PDFs/WA-SMSx_Performance_Flyer.pdf; Manufacturer PN: 9774050960R; CIP Link: http://xsjbrdwin1/CIP-E/Component/Index/All?pn=90000024; Part Type: Mechanical Part
footprint CON_WE_WA-SMST_6MM
pins: 1 GND (power)

## MP8904
designator U?
IC LDO 6.5V 500mA Adj QFN-8; Manufacturer PN: MP8904DD-LF-Z; Manufacturer: Monolithic Power Systems Inc.; Agile Part Number: ICS-00581-01; EDMVersionID: 491667633; PCB Footprint: QFN_MP8904DD_8; Barcode: 96000022; Datasheet: https://www.monolithicpower.com/pub/media/document/MP8904_r1.02.pdf; Part Type: LDO; CIP Link: http://xsjbrdwin1/CIP-E/Component/Index/All?pn=96000022
footprint QFN_MP8904DD_8
pins: 1 OUT (power), 2 NC1, 3 PG (oc), 4 FB (in), 5 EN (in), 6 GND (power), 7 NC2, 8 IN (power), 9 E_PAD (power)

## MUN12AD06-SM
designator U?
No Description Available; Mfr_Name: Cyntec; RefDes: RefDes; Type: Type
footprint MUN12AD06-SM_CYN
pins: 1 VIN (power), 2 PHASE (out), 3 PHASE (out), 4 PHASE (out), 5 GND (power), 6 GND (power), 7 GND (power), 8 EN (in), 9 PGOOD (out), 10 VOUT (out), 11 VOUT (out), 12 VOUT (out), 13 VOUT (out), 14 VOUT (out), 15 ILIM, 16 FB (in), 17 VCC (power), 18 BST (power), 19 VIN (power), 20 VIN (power), 21 VIN_TPD (power), 22 PHASE_TPD (out), 23 GND_TPD (power), 24 VOUT_TPD (out), 25 GND_TPD (power)

## NC7WV125K8X
designator U?
Integrated Circuit; Manufacturer_Name: ON Semiconductor; Datasheet Link: https://www.mouser.com/datasheet/2/308/NC7WV125-1301459.pdf; Height: 0.9mm; Manufacturer_Part_Number: NC7WV125K8X; Mouser Part Number: 512-NC7WV125K8X; Mouser Price/Stock: https://www.mouser.com/Search/Refine.aspx?Keyword=512-NC7WV125K8X; Arrow Part Number: NC7WV125K8X; Arrow Price/Stock: https://www.arrow.com/en/products/nc7wv125k8x/on-semiconductor
footprint SOP50P310X90-8N
pins: 1, 2, 3, 4 GND, 5, 6, 7, 8 VCC

## NC7WZ07
designator U?, comment DNI_NC7WZ07
IC Buffer Dual 5V 50mA 3.9nSec SC70-6 Open Drain; Manufacturer PN: NC7WZ07P6X; Manufacturer: ON Semiconductor; Agile Part Number: ICS-00102-01; Barcode: 500086; PCB Footprint: SC70_6; CIP Link: http://xsjbrdwin1/CIP-E/Component/Index/All?pn=500086; Part Type: CMOS LOGIC; ROHS: Yes; Family: CMOS LOGIC
footprint SC70_6
pins: 1 A1 (in), 2 GND (power), 3 A2 (in), 4 Y2 (oc), 5 VCC (power), 6 Y1 (oc)

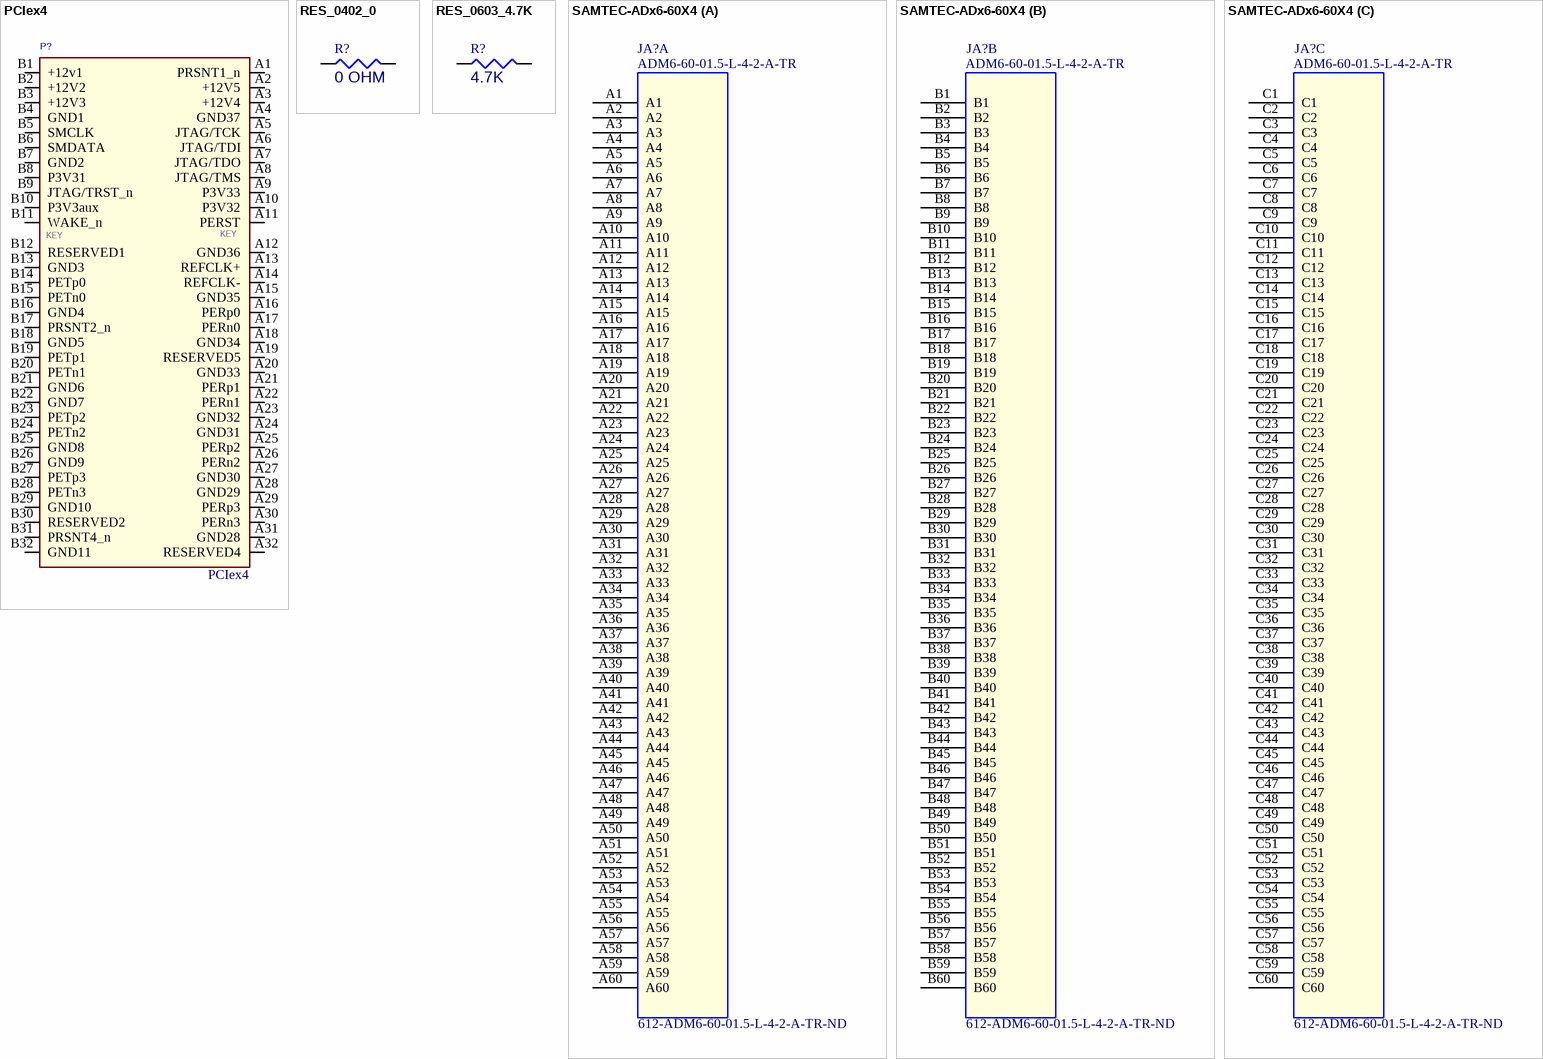
[diagram p3: symbols PCIex4 to SAMTEC-ADx6-60X4]

## PCIex4
designator P?
PCIE x4 Edge Connector,OrCAD Symbol,NC; Part Number: 451; Manufacturer: NA; NOTE: NC; Vendor P/N: NA; Part Type: SMT
footprint PCIE_4LANE_EDGE
footprint ALINX_FPGA
pins: A1 PRSNT1_n, A2 +12V5, A3 +12V4, A4 GND37 (power), A5 JTAG/TCK, A6 JTAG/TDI, A7 JTAG/TDO, A8 JTAG/TMS, A9 P3V33, A10 P3V32, A11 PERST, A12 GND36 (power), A13 REFCLK+, A14 REFCLK-, A15 GND35 (power), A16 PERp0, A17 PERn0, A18 GND34 (power), A19 RESERVED5, A20 GND33 (power), A21 PERp1, A22 PERn1, A23 GND32 (power), A24 GND31 (power), A25 PERp2, A26 PERn2, A27 GND30 (power), A28 GND29 (power), A29 PERp3, A30 PERn3, A31 GND28 (power), A32 RESERVED4, B1 +12v1 (power), B2 +12V2 (power), B3 +12V3 (power), B4 GND1 (power), B5 SMCLK, B6 SMDATA, B7 GND2 (power), B8 P3V31 (power), B9 JTAG/TRST_n, B10 P3V3aux, B11 WAKE_n, B12 RESERVED1, B13 GND3 (power), B14 PETp0, B15 PETn0, B16 GND4 (power), B17 PRSNT2_n, B18 GND5 (power), B19 PETp1, B20 PETn1, B21 GND6 (power), B22 GND7 (power), B23 PETp2, B24 PETn2, B25 GND8 (power), B26 GND9 (power), B27 PETp3, B28 PETn3, B29 GND10 (power), B30 RESERVED2, B31 PRSNT4_n, B32 GND11 (power)
text: KEY

## RES_0402_0
designator R?, comment value 0 OHM  (hidden comment: ERJ-2GE0R00X)
RES, 0. OHM, 1%, 1/16W, TF, AEC-Q200, 0402; VELENTIUM PART NUM: <VELENTIUM>; MFG NAME: PANASONIC; MAXTEMP: 155C; MINTEMP: -55C; OTHER: 100PPM, AEC-Q200; SUB: GENERIC; DESC: RES, 0 OHM, 1%, 1/16W, TF, AEC-Q200, 0402; ModifyDate: 7/25/2013; MFG PART NUM: ERJ-2GE0R00X; CATEGORY: RES; Date: 7/26/2013; P1: 1%; P3: TF; P2: 1/16W; SIZE: 0402; SHEETPART: *; Supplier 1: Digi-Key; Supplier Part Number 1: P0.0JCT-ND
footprint RESC1005X04N (Chip Resistor, 0402, 2-Leads, Body 1.00x0.50mm, IPC Medium Density)
pins: 1, 2

## RES_0603_4.7K
designator R?, comment value 4.7K  (hidden comment: ERJ-3EKF4701V)
RES, 4.7K, 1%, 1/10W, TF, 0603; VELENTIUM PART NUM: <VELENTIUM>; MFG NAME: PANASONIC; MAXTEMP: 125C; MINTEMP: -55C; OTHER: 100PPM; SUB: GENERIC; ModifyDate: 7/25/2013; MFG PART NUM: ERJ-3EKF4701V; CATEGORY: RES; Date: 7/26/2013; P1: 1%; P3: TF; P2: 1/10W; SIZE: 0603; Supplier 1: Digi-Key; Supplier Part Number 1: P4.70KHCT-ND; SHEETPART: *; DESC: RES, 4.7K, 1%, 1/10W, TF, 0603
footprint RESC1608X50N (Chip Resistor, 0603, 2-Leads, Body 1.57x0.85mm, IPC Medium Density)
pins: 1, 2

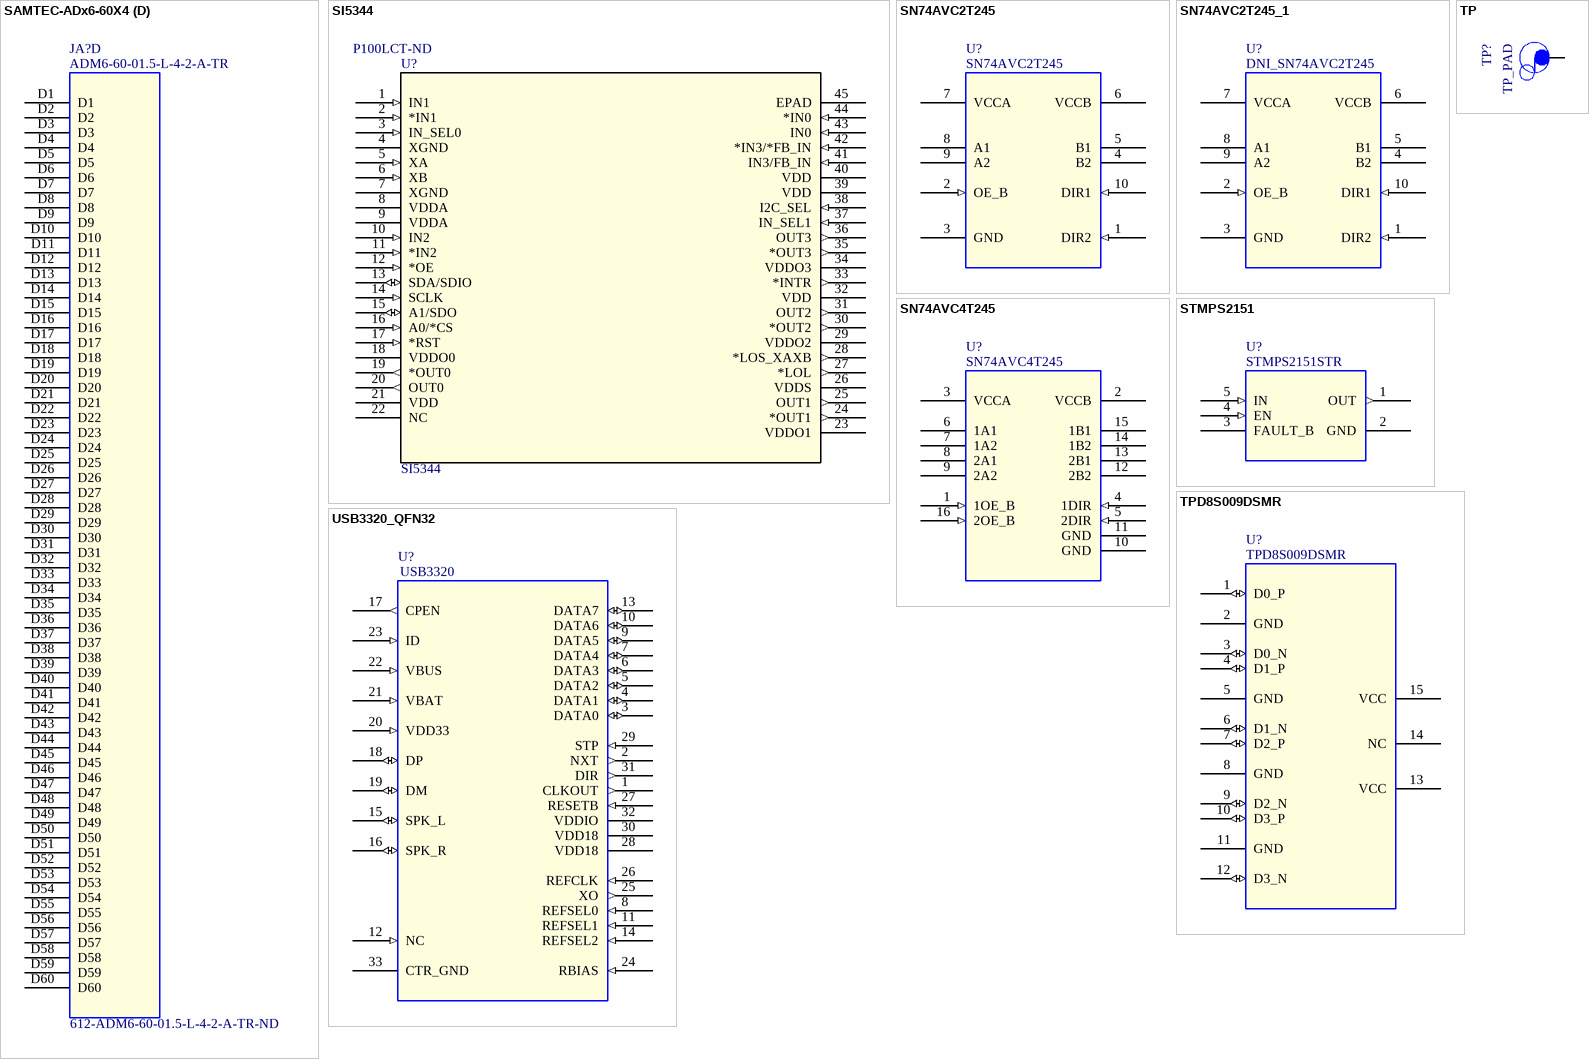
[diagram p4: symbols SAMTEC-ADx6-60X4 to USB3320_QFN32]

## SAMTEC-ADx6-60X4
designator JA?, comment ADM6-60-01.5-L-4-2-A-TR  Supplier Part Number 1: 612-ADM6-60-01.5-L-4-2-A-TR-ND
Conn Rcpt Male Vert 240 Pos 4x60 0.635mm P Black SMT; Manufacturer: Samtec Inc.; Agile Part Number: CON-00383-01; SPLIT_INST: TRUE; SWAP_INFO: (S1+S2+S3+S4); PCB Footprint: CON_SAMTEC_ADM6_60_4; Pitch: 0.025" (0.64mm); Barcode: 40000092; Datasheet: http://suddendocs.samtec.com/catalog_english/adf6.pdf; Manufacturer PN: ADM6-60-01.5-L-4-2-A-TR; CIP Link: http://xsjbrdwin1/CIP-E/Component/Index/All?pn=40000092; Number of Pins: 240; Part Type: CONNECTOR; Supplier 1: Digi-Key
footprint CON_SAMTEC_ADM6_60_4
part A pins: A1, A2, A3, A4, A5, A6, A7, A8, A9, A10, A11, A12, A13, A14, A15, A16, A17, A18, A19, A20, A21, A22, A23, A24, A25, A26, A27, A28, A29, A30, A31, A32, A33, A34, A35, A36, A37, A38, A39, A40, A41, A42, A43, A44, A45, A46, A47, A48, A49, A50, A51, A52, A53, A54, A55, A56, A57, A58, A59, A60
part B pins: B1, B2, B3, B4, B5, B6, B7, B8, B9, B10, B11, B12, B13, B14, B15, B16, B17, B18, B19, B20, B21, B22, B23, B24, B25, B26, B27, B28, B29, B30, B31, B32, B33, B34, B35, B36, B37, B38, B39, B40, B41, B42, B43, B44, B45, B46, B47, B48, B49, B50, B51, B52, B53, B54, B55, B56, B57, B58, B59, B60
part C pins: C1, C2, C3, C4, C5, C6, C7, C8, C9, C10, C11, C12, C13, C14, C15, C16, C17, C18, C19, C20, C21, C22, C23, C24, C25, C26, C27, C28, C29, C30, C31, C32, C33, C34, C35, C36, C37, C38, C39, C40, C41, C42, C43, C44, C45, C46, C47, C48, C49, C50, C51, C52, C53, C54, C55, C56, C57, C58, C59, C60
part D pins: D1, D2, D3, D4, D5, D6, D7, D8, D9, D10, D11, D12, D13, D14, D15, D16, D17, D18, D19, D20, D21, D22, D23, D24, D25, D26, D27, D28, D29, D30, D31, D32, D33, D34, D35, D36, D37, D38, D39, D40, D41, D42, D43, D44, D45, D46, D47, D48, D49, D50, D51, D52, D53, D54, D55, D56, D57, D58, D59, D60

## SI5344
designator U?  Supplier Part Number 1: P100LCT-ND
Imported; Vendor: SILICONLABS; Manufacturer_Part_Number: si5344; RefDes: RefDes; Type: Type; Value: Value; Supplier 1: Digi-Key
footprint QFN_44
pins: 1 IN1 (in), 2 *IN1 (in), 3 IN_SEL0 (in), 4 XGND (power), 5 XA (in), 6 XB (in), 7 XGND (power), 8 VDDA (power), 9 VDDA (power), 10 IN2 (in), 11 *IN2 (in), 12 *OE (in), 13 SDA/SDIO (io), 14 SCLK (in), 15 A1/SDO (io), 16 A0/*CS (in), 17 *RST (in), 18 VDDO0 (power), 19 *OUT0 (out), 20 OUT0 (out), 21 VDD (power), 22 NC, 23 VDDO1 (power), 24 *OUT1 (out), 25 OUT1 (out), 26 VDDS (power), 27 *LOL (out), 28 *LOS_XAXB (out), 29 VDDO2 (power), 30 *OUT2 (out), 31 OUT2 (out), 32 VDD (power), 33 *INTR (out), 34 VDDO3 (power), 35 *OUT3 (out), 36 OUT3 (out), 37 IN_SEL1 (in), 38 I2C_SEL (in), 39 VDD (power), 40 VDD (power), 41 IN3/FB_IN (in), 42 *IN3/*FB_IN (in), 43 IN0 (in), 44 *IN0 (in), 45 EPAD

## SN74AVC2T245
designator U?
IC Lvl Trans 2-Bit Bidir 500Mbps 1.2-3.6V 50mA UQFN-10; Manufacturer PN: SN74AVC2T245RSWR; Manufacturer: TEXAS INSTRUMENTS; Agile Part Number: ICS-00048-01; EDMVersionID: 493023062; PCB Footprint: QFN40P140X180X55-10; Barcode: 500012; Part Type: BUS TRANSCEIVER; CIP Link: http://xsjbrdwin1/CIP-E/Component/Index/All?pn=500012
footprint QFN40P140X180X55-10
pins: 1 DIR2 (in), 2 OE_B (in), 3 GND (power), 4 B2, 5 B1, 6 VCCB (power), 7 VCCA (power), 8 A1, 9 A2, 10 DIR1 (in)
1 alternate drawing of the same symbol

## SN74AVC2T245_1
designator U?, comment DNI_SN74AVC2T245  (no BOM)
IC Lvl Trans 2-Bit Bidir 500Mbps 1.2-3.6V 50mA UQFN-10; Manufacturer PN: SN74AVC2T245RSWR; Manufacturer: TEXAS INSTRUMENTS; Agile Part Number: ICS-00048-01; EDMVersionID: 493023062; PCB Footprint: QFN40P140X180X55-10; Barcode: 500012; Part Type: BUS TRANSCEIVER; CIP Link: http://xsjbrdwin1/CIP-E/Component/Index/All?pn=500012
footprint QFN40P140X180X55-10
pins: 1 DIR2 (in), 2 OE_B (in), 3 GND (power), 4 B2, 5 B1, 6 VCCB (power), 7 VCCA (power), 8 A1, 9 A2, 10 DIR1 (in)
1 alternate drawing of the same symbol

## SN74AVC4T245
designator U?
IC Lvl Trans 4-Bit Bidir 380Mbps 1.2-3.6V 50mA UQFN-16; Manufacturer PN: SN74AVC4T245RSVR; Manufacturer: TEXAS INSTRUMENTS; Agile Part Number: ICS-00049-01; PCB Footprint: QFN_RSV_16; Barcode: 500013; Family: BUS TRANSCEIVER; ROHS: Yes; Part Type: BUS TRANSCEIVER; CIP Link: http://xsjbrdwin1/CIP-E/Component/Index/All?pn=500013
footprint QFN_RSV_16
pins: 1 1OE_B (in), 2 VCCB (power), 3 VCCA (power), 4 1DIR (in), 5 2DIR (in), 6 1A1, 7 1A2, 8 2A1, 9 2A2, 10 GND (power), 11 GND (power), 12 2B2, 13 2B1, 14 1B2, 15 1B1, 16 2OE_B (in)
1 alternate drawing of the same symbol

## STMPS2151
designator U?, comment STMPS2151STR
IC Switch Power 500mA 2.7-5.5V 110mR SOT23-5; Agile Part Number: ICS-00662-01; Manufacturer: STMicroelectronics; Supply Voltage: Not Required; Barcode: 50000178; PCB Footprint: SOT95P280X145_5; CIP Link: http://xsjbrdwin1/CIP-E/Component/Index/All?pn=50000178; Part Type: LOAD SWITCH; Manufacturer PN: STMPS2151STR; Datasheet: http://www.st.com/content/ccc/resource/technical/document/datasheet/e8/d7/48/25/eb/87/45/b3/CD00167470.pdf/files/CD00167470.pdf/jcr:content/translations/en.CD00167470.pdf
footprint SOT95P280X145_5
pins: 1 OUT (out), 2 GND (power), 3 FAULT_B (oc), 4 EN (in), 5 IN (in)

## TP
designator TP?, comment TP_PAD
TEST POINT 24mil SM pad; EDMVersionID: 493452275; ASSEMBLY_OPTIONS: DNP; Barcode: 96000010; MANF_P/N: DNP; OWNER: 3709; PCB Footprint: TP_PAD; PartType: TEST POINT; Pins: 1PIN; ROHS: Yes; Datasheet: NA; MANF: DNP; DEVICE: TP_PAD; Part Type: Unassigned Part Type; CIP Link: http://xsjbrdwin1/CIP-E/Component/Index/All?pn=96000010
footprint TP_PAD
pins: 1 TP

## TPD8S009DSMR
designator U?
TVSD 8-Ch 5.5V 2.5A 25W 4GHz SON-15 8KV Contact Discharge; Agile Part Number: ICS-00196-01; Manufacturer: TEXAS INSTRUMENTS; EDMVersionID: 493517914; PCB Footprint: SON_15P; Barcode: 500262; CIP Link: http://xsjbrdwin1/CIP-E/Component/Index/All?pn=500262; Part Type: ESD PROTECTOR; Manufacturer PN: TPD8S009DSMR
footprint SON_15P
pins: 1 D0_P (io), 2 GND (power), 3 D0_N (io), 4 D1_P (io), 5 GND (power), 6 D1_N (io), 7 D2_P (io), 8 GND (power), 9 D2_N (io), 10 D3_P (io), 11 GND (power), 12 D3_N (io), 13 VCC (power), 14 NC, 15 VCC (power)

## USB3320_QFN32
designator U?, comment USB3320
IC Xcvr USB 2.0 3.3V VQFN-32 ULPI; Manufacturer PN: USB3320C-EZK-TR; Manufacturer: SMSC; Agile Part Number: ICS-00089-01; EDMVersionID: 493955866; Barcode: 500065; PCB Footprint: QFN05P500X500X100_32P_330EP; CIP Link: http://xsjbrdwin1/CIP-E/Component/Index/All?pn=500065; Part Type: USB TRANSCEIVER
footprint QFN05P500X500X100_32P_330EP
pins: 1 CLKOUT (out), 2 NXT (out), 3 DATA0 (io), 4 DATA1 (io), 5 DATA2 (io), 6 DATA3 (io), 7 DATA4 (io), 8 REFSEL0 (in), 9 DATA5 (io), 10 DATA6 (io), 11 REFSEL1 (in), 12 NC (in), 13 DATA7 (io), 14 REFSEL2 (in), 15 SPK_L (io), 16 SPK_R (io), 17 CPEN (out), 18 DP (io), 19 DM (io), 20 VDD33 (in), 21 VBAT (in), 22 VBUS (in), 23 ID (in), 24 RBIAS (in), 25 XO (out), 26 REFCLK (in), 27 RESETB (in), 28 VDD18 (power), 29 STP (in), 30 VDD18 (power), 31 DIR (out), 32 VDDIO (power), 33 CTR_GND